# Altium footprint library GCT_USB4151-GF-C_REVA.PcbLib: 2 footprints
Each footprint in its own frame and in the unit in brackets; x right, y up, seen from the top. Pads: shape width x height; smd on the part's side, far side on the other; paste and mask are expansions set on the pad; w line width, h text height; cw(c..) or ccw(c..) is an arc to the next point about the centre after c.
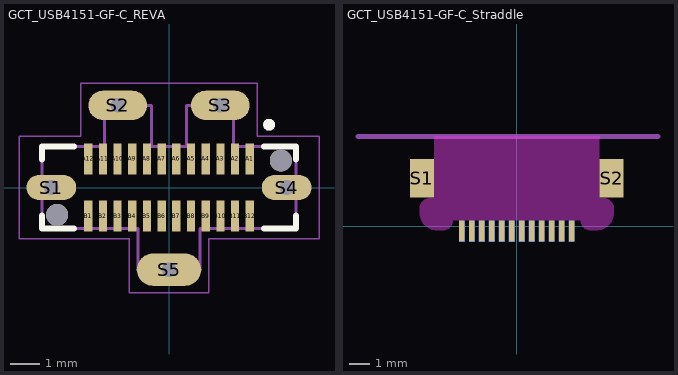
[diagram p0: the footprints below, top view; thin cyan lines are the x and y axes]

## GCT_USB4151-GF-C_REVA [mm]
pads (31):
  rect 0.28x1.05 smd: A1(2.75,0.975) A2(2.25,0.975) A3(1.75,0.975) A4(1.25,0.975) A5(0.75,0.975) A6(0.25,0.975) A7(-0.25,0.975) A8(-0.75,0.975) A9(-1.25,0.975) A10(-1.75,0.975) A11(-2.25,0.975) A12(-2.75,0.975) B1(-2.75,-0.975) B2(-2.25,-0.975) B3(-1.75,-0.975) B4(-1.25,-0.975) B5(-0.75,-0.975) B6(-0.25,-0.975) B7(0.25,-0.975) B8(0.75,-0.975) B9(1.25,-0.975) B10(1.75,-0.975) B11(2.25,-0.975) B12(2.75,-0.975)
  oval 1.7x0.85 hole 0.5 square: S1(-4.01,0) S4(4.01,0)
  oval 2x1 hole 0.5 square: S2(-1.75,2.8) S3(1.75,2.8)
  oval 2.2x1.1 hole 0.5 square: S5(0,-2.8)
  round 0.75 hole 0.75 unplated: ""(-3.81,-0.93) ""(3.81,0.92)
Top Overlay:
  circle w0.2: c3.41,2.14 r0.1
  lines w0.2: -4.33,-0.95 -4.33,-1.4 -3.24,-1.4 ; -4.33,0.95 -4.33,1.4 -3.24,1.4 ; 3.24,-1.4 4.33,-1.4 4.33,-0.95 ; 3.24,1.4 4.33,1.4 4.33,0.95
Mechanical 13:
  circle w0.2: c3.41,2.14 r0.1
  lines w0.1: -4.33,-1.4 -1.05,-1.4 -1.05,-2.8 1.05,-2.8 1.05,-1.4 4.33,-1.4 4.33,1.4 2.2,1.4 2.2,2.8 0.6,2.8 0.6,1.4 -0.6,1.4 -0.6,2.8 -2.2,2.8 -2.2,1.4 -4.33,1.4 -4.33,-1.4
Mechanical 15:
  lines w0.05: -5.11,-1.75 -1.35,-1.75 -1.35,-3.58 1.35,-3.58 1.35,-1.75 5.11,-1.75 5.11,1.75 3,1.75 3,3.55 -3,3.55 -3,1.75 -5.11,1.75 -5.11,-1.75
3D body "USB4151-GF-C--3DModel-STEP-56544.STEP": height 11.1, standoff -1.25, extent -4.33,-2.875 4.33,2.875

## GCT_USB4151-GF-C_Straddle [mm]
pads (26):
  rect 0.28x1.05 smd far side paste-10: A1(2.75,-0.25) A2(2.25,-0.25) A3(1.75,-0.25) A4(1.25,-0.25) A5(0.75,-0.25) A6(0.25,-0.25) A7(-0.25,-0.25) A8(-0.75,-0.25) A9(-1.25,-0.25) A10(-1.75,-0.25) A11(-2.25,-0.25) A12(-2.75,-0.25)
  rect 0.28x1.05 smd paste-10: B1(-2.75,-0.25) B2(-2.25,-0.25) B3(-1.75,-0.25) B4(-1.25,-0.25) B5(-0.75,-0.25) B6(-0.25,-0.25) B7(0.25,-0.25) B8(0.75,-0.25) B9(1.25,-0.25) B10(1.75,-0.25) B11(2.25,-0.25) B12(2.75,-0.25)
  rect 1.2x1.95 / inner rect 0x0 / far side rect 1.2x1.95 all layers, no hole paste-10: S1(-4.75,2.4) S2(4.75,2.4)
Keep-Out Layer:
  board cut-out: -4,-0.2 -4.084,-0.2 -4.248,-0.167 -4.403,-0.103 -4.542,-0.01 -4.66,0.108 -4.753,0.247 -4.817,0.402 -4.85,0.566 -4.85,0.65 -4.85,0.9 -4.85,0.999 -4.774,1.183 -4.633,1.324 -4.449,1.4 -4.35,1.4 -4.125,1.4 -4.125,4.5 4.125,4.5 4.125,1.4 4.35,1.4 4.449,1.4 4.633,1.324 4.774,1.183 4.85,0.999 4.85,0.9 4.85,0.65 4.85,0.566 4.817,0.402 4.753,0.247 4.66,0.108 4.542,-0.01 4.403,-0.103 4.248,-0.167 4.084,-0.2 4,-0.2 3.7,-0.2 3.601,-0.2 3.417,-0.124 3.276,0.017 3.2,0.201 3.2,0.3 -3.2,0.3 -3.2,0.201 -3.276,0.017 -3.417,-0.124 -3.601,-0.2 -3.7,-0.2
Mechanical 1:
  lines w0.254: -7.95,4.5 7.075,4.5
  text "Outside of enclosure" at -14.621,5.454 h1.52
3D body "USB4151-GF-C--3DModel-STEP-56544.STEP": height 2.08, standoff -3.67, extent -4.33,-1.25 4.33,11.1